# EAGLE library part TPS562202 (library Bits_library_eagle)
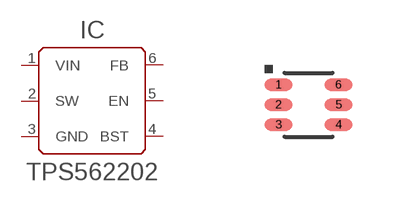
[diagram p54: symbol with the pads of SOT-5X3_0.6MM; footprint SOT-5X3_0.6MM]

Designator prefix IC

## TPS562202  [SOT-5X3_0.6MM]
1  VIN  pwr
2  SW  pas
3  GND  pwr
4  BST  pas
5  EN
6  FB

## Footprint SOT-5X3_0.6MM (pad centres in mm)
smd 0.7 x 0.3: 1 -0.75,0.5; 2 -0.75,0; 3 -0.75,-0.5; 4 0.75,-0.5; 5 0.75,0; 6 0.75,0.5